# EAGLE library part F28M35X (library MAAV)
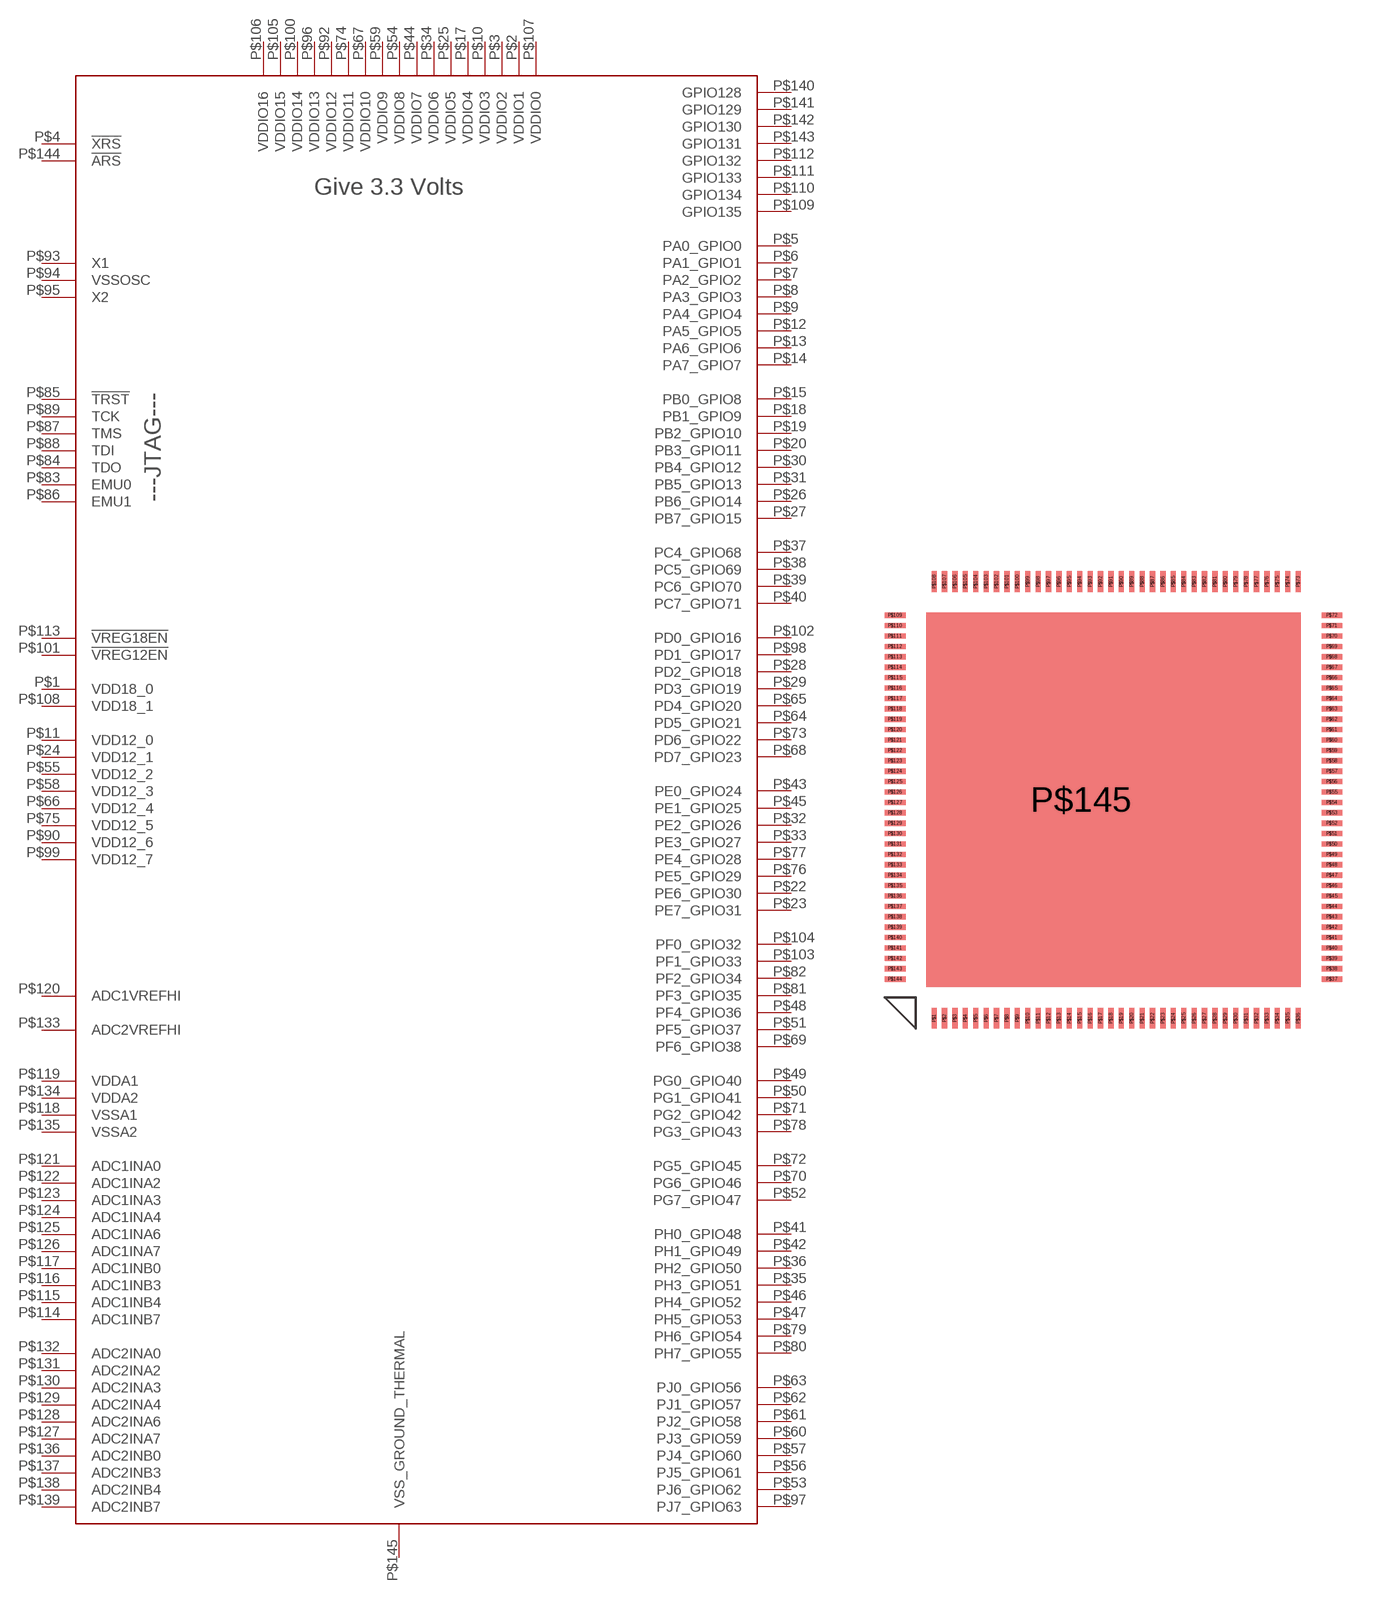
[diagram p13: symbol with the pads of S-PQFP-G144; footprint S-PQFP-G144]

Designator prefix -

## F28M35X  [S-PQFP-G144]
P$1  VDD18_0
P$2  VDDIO1
P$3  VDDIO2
P$4  !XRS
P$5  PA0_GPIO0
P$6  PA1_GPIO1
P$7  PA2_GPIO2
P$8  PA3_GPIO3
P$9  PA4_GPIO4
P$10  VDDIO3
P$11  VDD12_0
P$12  PA5_GPIO5
P$13  PA6_GPIO6
P$14  PA7_GPIO7
P$15  PB0_GPIO8
P$17  VDDIO4
P$18  PB1_GPIO9
P$19  PB2_GPIO10
P$20  PB3_GPIO11
P$22  PE6_GPIO30
P$23  PE7_GPIO31
P$24  VDD12_1
P$25  VDDIO5
P$26  PB6_GPIO14
P$27  PB7_GPIO15
P$28  PD2_GPIO18
P$29  PD3_GPIO19
P$30  PB4_GPIO12
P$31  PB5_GPIO13
P$32  PE2_GPIO26
P$33  PE3_GPIO27
P$34  VDDIO6
P$35  PH3_GPIO51
P$36  PH2_GPIO50
P$37  PC4_GPIO68
P$38  PC5_GPIO69
P$39  PC6_GPIO70
P$40  PC7_GPIO71
P$41  PH0_GPIO48
P$42  PH1_GPIO49
P$43  PE0_GPIO24
P$44  VDDIO7
P$45  PE1_GPIO25
P$46  PH4_GPIO52
P$47  PH5_GPIO53
P$48  PF4_GPIO36
P$49  PG0_GPIO40
P$50  PG1_GPIO41
P$51  PF5_GPIO37
P$52  PG7_GPIO47
P$53  PJ6_GPIO62
P$54  VDDIO8
P$55  VDD12_2
P$56  PJ5_GPIO61
P$57  PJ4_GPIO60
P$58  VDD12_3
P$59  VDDIO9
P$60  PJ3_GPIO59
P$61  PJ2_GPIO58
P$62  PJ1_GPIO57
P$63  PJ0_GPIO56
P$64  PD5_GPIO21
P$65  PD4_GPIO20
P$66  VDD12_4
P$67  VDDIO10
P$68  PD7_GPIO23
P$69  PF6_GPIO38
P$70  PG6_GPIO46
P$71  PG2_GPIO42
P$72  PG5_GPIO45
P$73  PD6_GPIO22
P$74  VDDIO11
P$75  VDD12_5
P$76  PE5_GPIO29
P$77  PE4_GPIO28
P$78  PG3_GPIO43
P$79  PH6_GPIO54
P$80  PH7_GPIO55
P$81  PF3_GPIO35
P$82  PF2_GPIO34
P$83  EMU0
P$84  TDO
P$85  !TRST
P$86  EMU1
P$87  TMS
P$88  TDI
P$89  TCK
P$90  VDD12_6
P$92  VDDIO12
P$93  X1
P$94  VSSOSC
P$95  X2
P$96  VDDIO13
P$97  PJ7_GPIO63
P$98  PD1_GPIO17
P$99  VDD12_7
P$100  VDDIO14
P$101  !VREG12EN
P$102  PD0_GPIO16
P$103  PF1_GPIO33
P$104  PF0_GPIO32
P$105  VDDIO15
P$106  VDDIO16
P$107  VDDIO0
P$108  VDD18_1
P$109  GPIO135
P$110  GPIO134
P$111  GPIO133
P$112  GPIO132
P$113  !VREG18EN
P$114  ADC1INB7
P$115  ADC1INB4
P$116  ADC1INB3
P$117  ADC1INB0
P$118  VSSA1
P$119  VDDA1
P$120  ADC1VREFHI
P$121  ADC1INA0
P$122  ADC1INA2
P$123  ADC1INA3
P$124  ADC1INA4
P$125  ADC1INA6
P$126  ADC1INA7
P$127  ADC2INA7
P$128  ADC2INA6
P$129  ADC2INA4
P$130  ADC2INA3
P$131  ADC2INA2
P$132  ADC2INA0
P$133  ADC2VREFHI
P$134  VDDA2
P$135  VSSA2
P$136  ADC2INB0
P$137  ADC2INB3
P$138  ADC2INB4
P$139  ADC2INB7
P$140  GPIO128
P$141  GPIO129
P$142  GPIO130
P$143  GPIO131
P$144  !ARS
P$145  VSS_GROUND_THERMAL

## Footprint S-PQFP-G144 (pad centres in mm)
smd 0.25 x 1: P$1 -8.625,-10.5; P$2 -8.125,-10.5; P$3 -7.625,-10.5; P$4 -7.125,-10.5; P$5 -6.625,-10.5; P$6 -6.125,-10.5; P$7 -5.625,-10.5; P$8 -5.125,-10.5; P$9 -4.625,-10.5; P$10 -4.125,-10.5; P$11 -3.625,-10.5; P$12 -3.125,-10.5; P$13 -2.625,-10.5; P$14 -2.125,-10.5; P$15 -1.625,-10.5; P$16 -1.125,-10.5; P$17 -0.625,-10.5; P$18 -0.125,-10.5; P$19 0.375,-10.5; P$20 0.875,-10.5; P$21 1.375,-10.5; P$22 1.875,-10.5; P$23 2.375,-10.5; P$24 2.875,-10.5; P$25 3.375,-10.5; P$26 3.875,-10.5; P$27 4.375,-10.5; P$28 4.875,-10.5; P$29 5.375,-10.5; P$30 5.875,-10.5; P$31 6.375,-10.5; P$32 6.875,-10.5; P$33 7.375,-10.5; P$34 7.875,-10.5; P$35 8.375,-10.5; P$36 8.875,-10.5; P$73 8.875,10.5; P$74 8.375,10.5; P$75 7.875,10.5; P$76 7.375,10.5; P$77 6.875,10.5; P$78 6.375,10.5; P$79 5.875,10.5; P$80 5.375,10.5; P$81 4.875,10.5; P$82 4.375,10.5; P$83 3.875,10.5; P$84 3.375,10.5; P$85 2.875,10.5; P$86 2.375,10.5; P$87 1.875,10.5; P$88 1.375,10.5; P$89 0.875,10.5; P$90 0.375,10.5; P$91 -0.125,10.5; P$92 -0.625,10.5; P$93 -1.125,10.5; P$94 -1.625,10.5; P$95 -2.125,10.5; P$96 -2.625,10.5; P$97 -3.125,10.5; P$98 -3.625,10.5; P$99 -4.125,10.5; P$100 -4.625,10.5; P$101 -5.125,10.5; P$102 -5.625,10.5; P$103 -6.125,10.5; P$104 -6.625,10.5; P$105 -7.125,10.5; P$106 -7.625,10.5; P$107 -8.125,10.5; P$108 -8.625,10.5
smd 1 x 0.25: P$37 10.5,-8.625; P$38 10.5,-8.125; P$39 10.5,-7.625; P$40 10.5,-7.125; P$41 10.5,-6.625; P$42 10.5,-6.125; P$43 10.5,-5.625; P$44 10.5,-5.125; P$45 10.5,-4.625; P$46 10.5,-4.125; P$47 10.5,-3.625; P$48 10.5,-3.125; P$49 10.5,-2.625; P$50 10.5,-2.125; P$51 10.5,-1.625; P$52 10.5,-1.125; P$53 10.5,-0.625; P$54 10.5,-0.125; P$55 10.5,0.375; P$56 10.5,0.875; P$57 10.5,1.375; P$58 10.5,1.875; P$59 10.5,2.375; P$60 10.5,2.875; P$61 10.5,3.375; P$62 10.5,3.875; P$63 10.5,4.375; P$64 10.5,4.875; P$65 10.5,5.375; P$66 10.5,5.875; P$67 10.5,6.375; P$68 10.5,6.875; P$69 10.5,7.375; P$70 10.5,7.875; P$71 10.5,8.375; P$72 10.5,8.875; P$109 -10.5,8.875; P$110 -10.5,8.375; P$111 -10.5,7.875; P$112 -10.5,7.375; P$113 -10.5,6.875; P$114 -10.5,6.375; P$115 -10.5,5.875; P$116 -10.5,5.375; P$117 -10.5,4.875; P$118 -10.5,4.375; P$119 -10.5,3.875; P$120 -10.5,3.375; P$121 -10.5,2.875; P$122 -10.5,2.375; P$123 -10.5,1.875; P$124 -10.5,1.375; P$125 -10.5,0.875; P$126 -10.5,0.375; P$127 -10.5,-0.125; P$128 -10.5,-0.625; P$129 -10.5,-1.125; P$130 -10.5,-1.625; P$131 -10.5,-2.125; P$132 -10.5,-2.625; P$133 -10.5,-3.125; P$134 -10.5,-3.625; P$135 -10.5,-4.125; P$136 -10.5,-4.625; P$137 -10.5,-5.125; P$138 -10.5,-5.625; P$139 -10.5,-6.125; P$140 -10.5,-6.625; P$141 -10.5,-7.125; P$142 -10.5,-7.625; P$143 -10.5,-8.125; P$144 -10.5,-8.625
smd 9.54 x 6.5: P$145 -1.56,0